# Altium schematic symbol library AP2331W-7.Schlib: 1 symbol
Pins are listed as number, name and electrical type; pins without a type are passive.

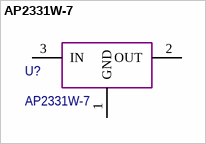
[diagram p0: symbol AP2331W-7]

## AP2331W-7
designator U?
pins: 1 GND, 2 OUT, 3 IN